# Altium integrated library Connectors.IntLib: 19 symbols
Pins are listed as number, name and electrical type; pins without a type are passive.

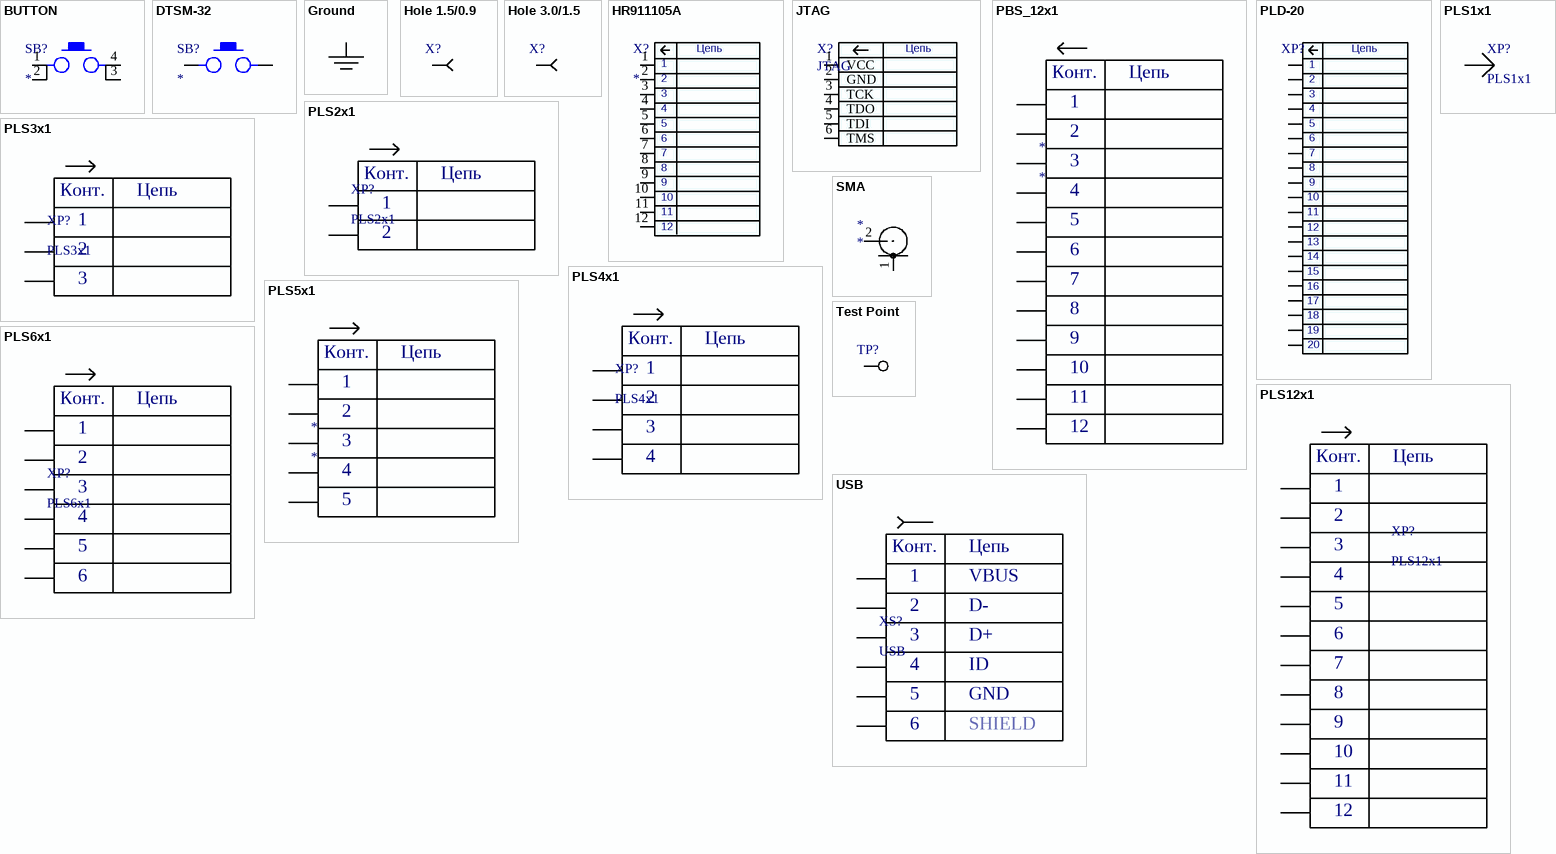
[diagram p0: symbols BUTTON to USB]

## BUTTON
designator SB?
footprint BUTTON
pins: 1, 2, 3, 4

## DTSM-32
designator SB?
footprint DTSM-32
pins: 1, 2

## Ground
designator *  (value not drawn)
pins: GND

## Hole 1.5/0.9
designator X?  (value not drawn)
footprint Hole 1.5/0.9
pins: 0

## Hole 3.0/1.5
designator X?  (value not drawn)
footprint Hole 3.0/1.5
pins: 0

## HR911105A
designator X?
footprint HR911105A
pins: 1 TD+, 2 TD-, 3 RD+, 4 COM, 5 COM, 6 RD-, 7 NC, 8 GND, 9 GreenA, 10 GreenK, 11 YellowK, 12 YellowA
text: Цепь

## JTAG
designator X?
Manufacturer: China; Class: Connectors; ESKD: *; Part number: *
footprint JTAG
pins: 1 VCC, 2 GND, 3 TCK, 4 TDO, 5 TDI, 6 TMS
text: Цепь

## PBS_12x1
designator *
footprint PBS_12x1
pins: 1, 2, 3, 4, 5, 6, 7, 8, 9, 10, 11, 12
text: Конт.; Цепь

## PLD-20
designator XP?  (value not drawn)
ESKD: *
footprint PLD-20
pins: 1 "VBUS", 2 "D-", 3 "VBUS", 4 "D-", 5 "VBUS", 6 "D-", 7 "VBUS", 8 "D-", 9 "VBUS", 10 "D-", 11 "VBUS", 12 "D-", 13 "VBUS", 14 "D-", 15 "VBUS", 16 "D-", 17 "VBUS", 18 "D-", 19 "VBUS", 20 "D-"
text: Цепь

## PLS1x1
designator XP?
footprint PLS1x1_h
footprint PLS1x1_V
pins: 1

## PLS2x1
designator XP?
footprint PLS2x1
pins: 1, 2
text: Конт.; Цепь

## PLS3x1
designator XP?
footprint PLS3x1
pins: 1, 2, 3
text: Конт.; Цепь

## PLS4x1
designator XP?
footprint PLS4x1_h
pins: 1, 2, 3, 4
text: Конт.; Цепь

## PLS5x1
designator *
footprint PLS5x1_1
pins: 1, 2, 3, 4, 5
text: Конт.; Цепь

## PLS6x1
designator XP?
footprint PLS6x1
footprint PLS6x1_1
pins: 1, 2, 3, 4, 5, 6
text: Конт.; Цепь

## PLS12x1
designator XP?
footprint PLS12x1
pins: 1, 2, 3, 4, 5, 6, 7, 8, 9, 10, 11, 12
text: Конт.; Цепь

## SMA
designator *
footprint SMA_PCB_RIGHT
pins: 1 SIG, 2 GND

## Test Point
designator TP?  (value not drawn)
ESKD: Test Point
footprint TestPoint0.6mm
footprint TestPoint0.8mm
footprint TestPoint1mm
pins: 0

## USB
designator XS?
footprint MINI_USB_B
pins: 1, 2, 3, 4, 5, SHIELD
text: Конт.; Цепь; VBUS; D-; D+; ID; GND; 6